# EAGLE library part NRF24 (library nrf24)
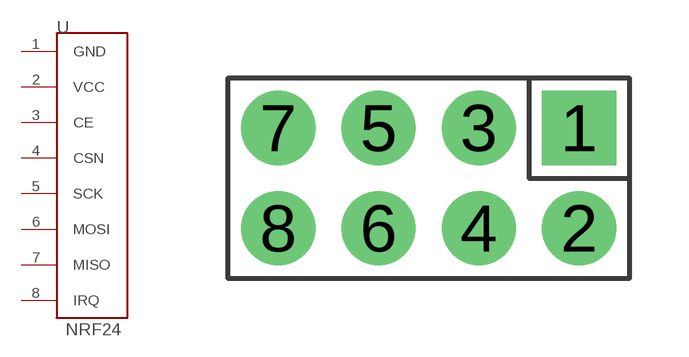
[diagram p0: symbol with the pads of NRF24; footprint NRF24]

Designator prefix -

## NRF24  [NRF24]
1  GND
2  VCC
3  CE
4  CSN
5  SCK
6  MOSI
7  MISO
8  IRQ

## Footprint NRF24 (pad centres in mm)
drill 1.016 pad 1.88 square: 1 3.81,1.27
drill 1.016 pad 1.88: 2 3.81,-1.27; 3 1.27,1.27; 4 1.27,-1.27; 5 -1.27,1.27; 6 -1.27,-1.27; 7 -3.81,1.27; 8 -3.81,-1.27